# Altium footprint library Fuse.PcbLib: 1 footprints
Each footprint in its own frame and in the unit in brackets; x right, y up, seen from the top. Pads: shape width x height; smd on the part's side, far side on the other; paste and mask are expansions set on the pad; w line width, h text height; cw(c..) or ccw(c..) is an arc to the next point about the centre after c.
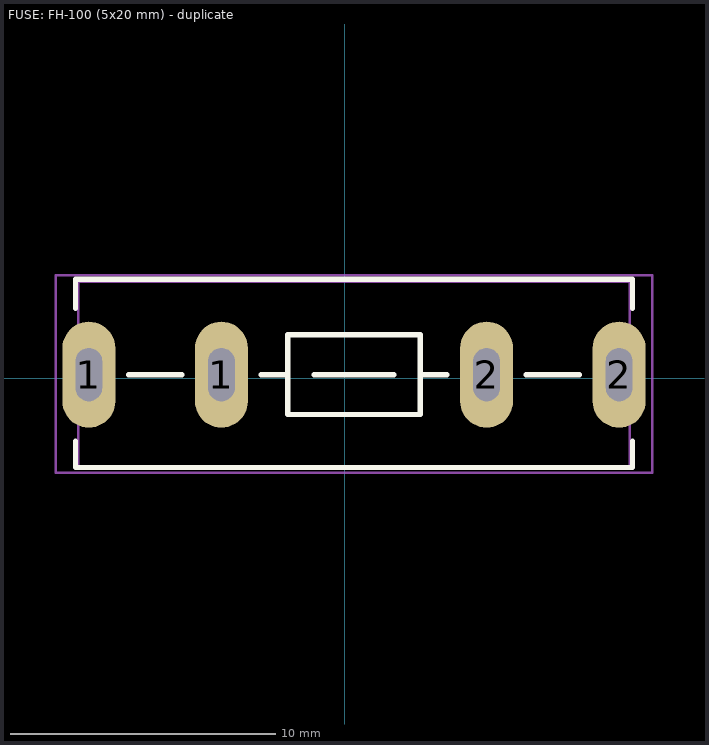
[diagram p0: the footprint, top view; thin cyan lines are the x and y axes]

## FUSE: FH-100 (5x20 mm) - duplicate [mm]
pads (4):
  oval 2x4 hole 2 slot 1 at 0 deg: 1(-9.652,0.127) 1(-4.652,0.127) 2(5.348,0.127) 2(10.348,0.127)
Top Overlay:
  lines w0.2: -10.152,-2.373 -10.152,-3.373 10.848,-3.373 10.848,-2.373 ; -10.152,2.627 -10.152,3.727 10.848,3.727 10.848,2.627 ; -8.152,0.127 -6.152,0.127 ; -3.152,0.127 -2.152,0.127 ; -1.152,0.127 1.848,0.127 ; 2.848,0.127 3.848,0.127 ; 6.848,0.127 8.848,0.127 ; -2.152,-1.373 -2.152,1.627 2.848,1.627 2.848,-1.373 -2.152,-1.373
Mechanical 1:
  lines w0.1: -8.152,0.127 -6.152,0.127 ; -3.152,0.127 -2.152,0.127 ; 2.848,0.127 3.848,0.127 ; 6.848,0.127 8.848,0.127 ; -2.152,0.127 -2.152,1.627 2.848,1.627 2.848,-1.373 -2.152,-1.373 -2.152,0.127 ; -10.052,-3.373 -10.052,3.627 10.748,3.627 10.748,-3.373 -10.052,-3.373
Mechanical 15:
  lines w0.1: -10.902,-3.573 -10.902,3.877 11.598,3.877 11.598,-3.573 -10.902,-3.573
3D body: height 9.99, standoff -3.5, extent -10.052,-3.373 10.748,3.627